# EAGLE library part DP10 (library switch)
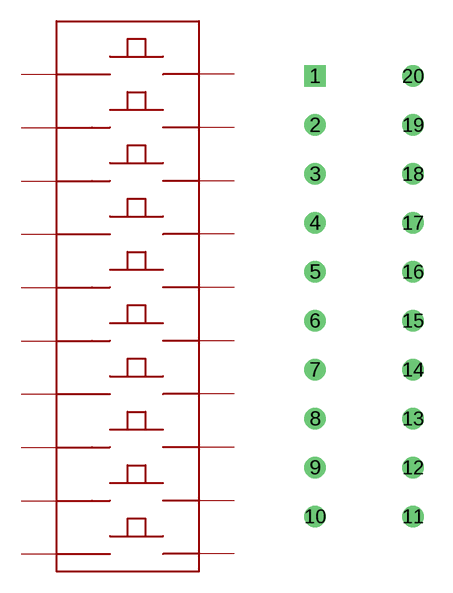
[diagram p65: symbol with the pads of DP10; footprint DP10]

Designator prefix SW

## DP10  [DP10]
1  SW_1
2  SW_1G
3  SW_1G1
4  SW_1G2
5  SW_1G3
6  SW_1G4
7  SW_1G5
8  SW_1G6
9  SW_1G7
10  SW_1G8
11  SW_1G9
12  SW_2
13  SW_3
14  SW_4
15  SW_5
16  SW_6
17  SW_7
18  SW_8
19  SW_9
20  SW_10

## Footprint DP10 (pad centres in mm)
drill 0.6 square: 1 0,0
drill 0.6: 2 0,-2.54; 3 0,-5.08; 4 0,-7.62; 5 0,-10.16; 6 0,-12.7; 7 0,-15.24; 8 0,-17.78; 9 0,-20.32; 10 0,-22.86; 11 5.08,-22.86; 12 5.08,-20.32; 13 5.08,-17.78; 14 5.08,-15.24; 15 5.08,-12.7; 16 5.08,-10.16; 17 5.08,-7.62; 18 5.08,-5.08; 19 5.08,-2.54; 20 5.08,0